# Altium schematic symbol library EMK105ABJ474KVHF.SchLib: 1 symbol
Pins are listed as number, name and electrical type; pins without a type are passive.

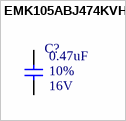
[diagram p0: symbol EMK105ABJ474KVHF]

## EMK105ABJ474KVHF
designator C?  Rated Voltage: 16V  Tolerance: 10%  Capacitence: 0.47uF  (hidden comment: EMK105ABJ474KVHF)
CAP CER 0.47UF 16V X5R 0402; MFR: Taiyo Yuden; PN: EMK105ABJ474KVHF; ComponentLink1Description: Datasheet; ComponentLink1URL: www.google.com; Temperature Coefficient: X5R; Package: 0402; Footprint: C0402; Supplier 1: Mouser; Supplier Part Number 1: 963-EMK105ABJ474KVHF
footprint C0402 (A generic C0402 footprint)
pins: 1, 2